# EAGLE library part CP2102N-A01-GQFN28 (library ICs)
USB Bridge, USB to UART USB 2.0 UART Interface 28-QFN (5x5)
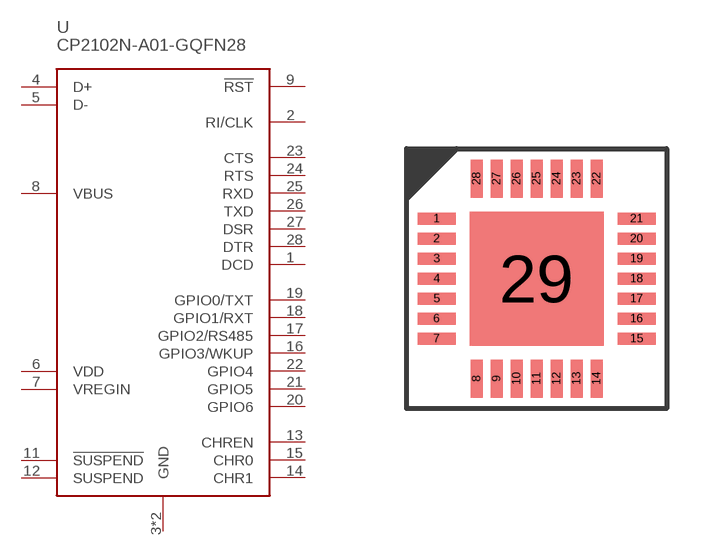
[diagram p238: symbol with the pads of QFN28; footprint QFN28]

Designator prefix U

## CP2102N-A01-GQFN28 (DIGIKEY: 336-3694-ND; HEIGHT: 1.2; PRICE_PER: 1.09; VALUE: CP2102)  [QFN28]
1  DCD
2  RI/CLK
3  GND
4  D+
5  D-
6  VDD
7  VREGIN
8  VBUS
9  !RST
11  !SUSPEND
12  SUSPEND
13  CHREN
14  CHR1
15  CHR0
16  GPIO3/WKUP
17  GPIO2/RS485
18  GPIO1/RXT
19  GPIO0/TXT
20  GPIO6
21  GPIO5
22  GPIO4
23  CTS
24  RTS
25  RXD
26  TXD
27  DSR
28  DTR
29  GND

## Footprint QFN28 (pad centres in mm)
smd 0.95 x 0.3: 1 -2.5,1.5; 2 -2.5,1; 3 -2.5,0.5; 4 -2.5,0; 5 -2.5,-0.5; 6 -2.5,-1; 7 -2.5,-1.5; 15 2.5,-1.5; 16 2.5,-1; 17 2.5,-0.5; 18 2.5,0; 19 2.5,0.5; 20 2.5,1; 21 2.5,1.5
smd 0.3 x 0.95: 8 -1.5,-2.5; 9 -1,-2.5; 10 -0.5,-2.5; 11 0,-2.5; 12 0.5,-2.5; 13 1,-2.5; 14 1.5,-2.5; 22 1.5,2.5; 23 1,2.5; 24 0.5,2.5; 25 0,2.5; 26 -0.5,2.5; 27 -1,2.5; 28 -1.5,2.5
smd 3.35 x 3.35: 29 0,0